# Altium footprint library Package_DIP.PcbLib: 281 footprints (part 7 of 18)
Each footprint in its own frame and in the unit in brackets; x right, y up, seen from the top. Pads: shape width x height; smd on the part's side, far side on the other; paste and mask are expansions set on the pad; w line width, h text height; cw(c..) or ccw(c..) is an arc to the next point about the centre after c.
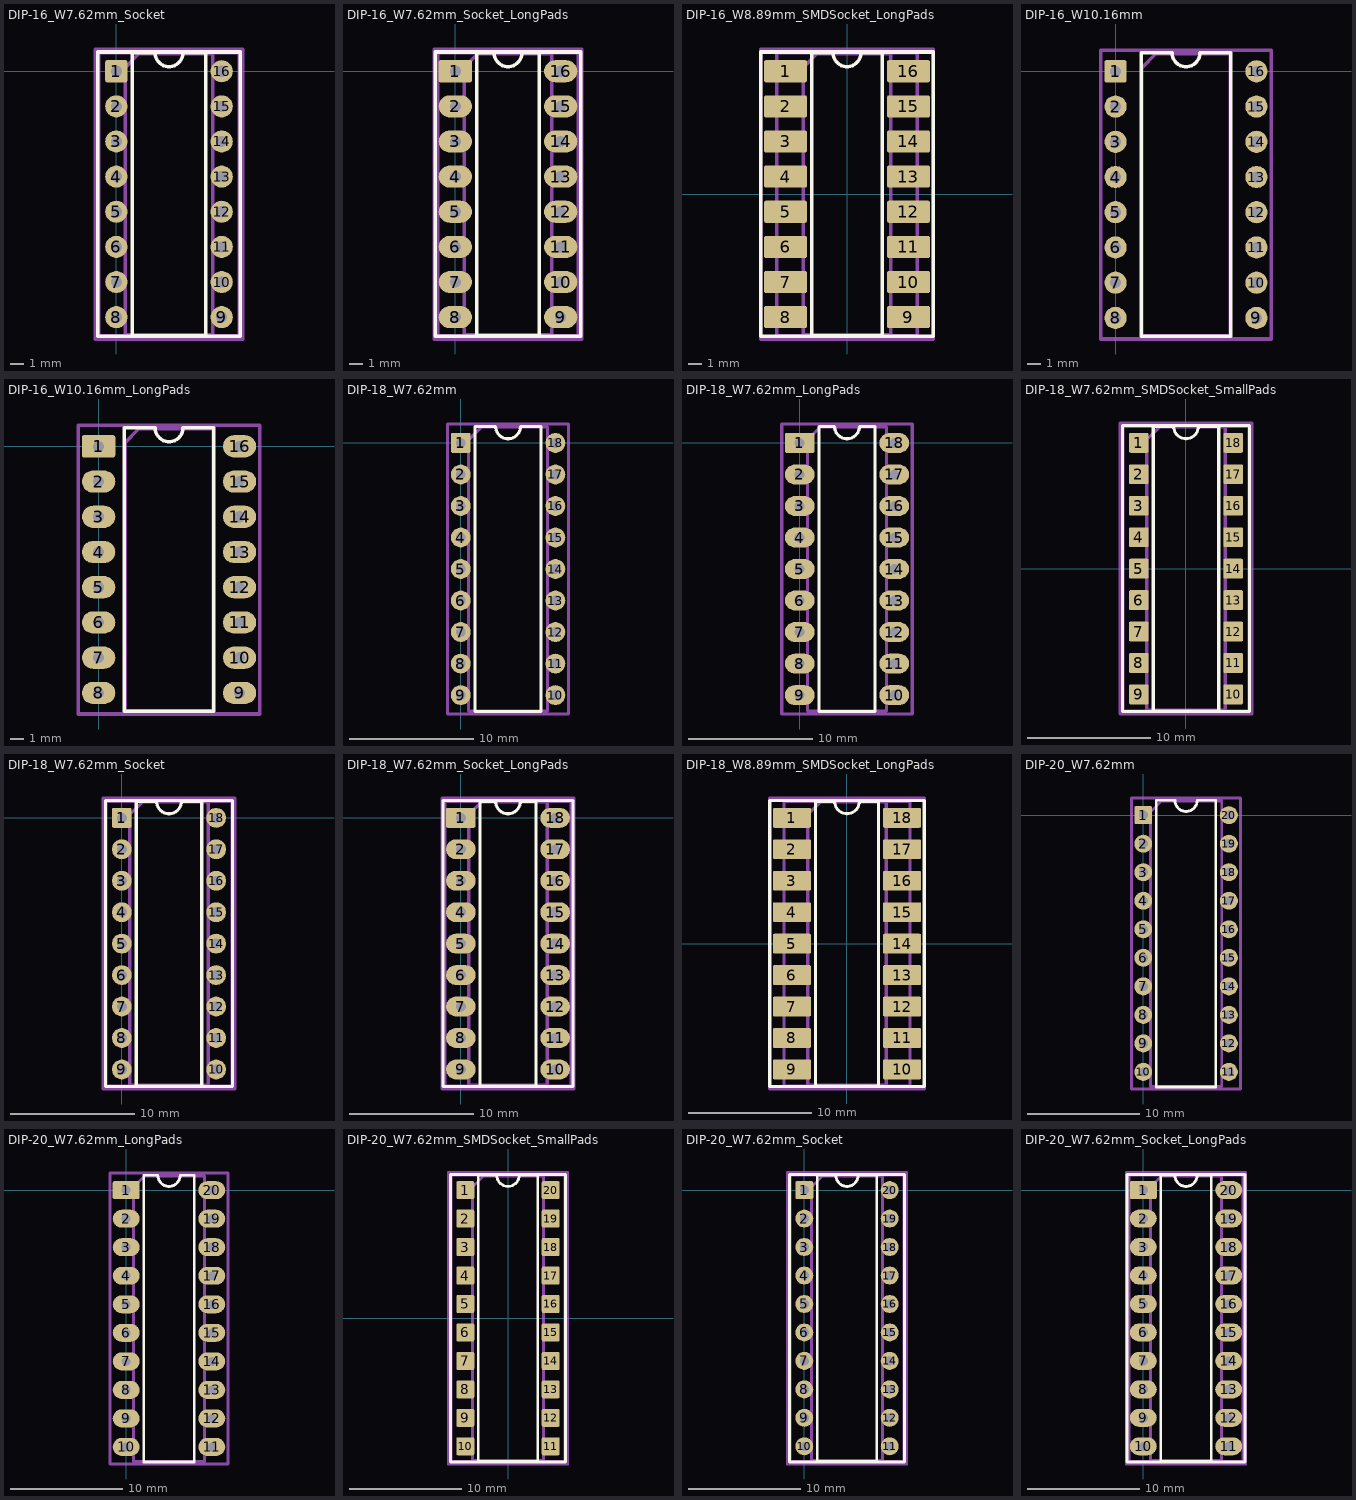
[diagram p6: the footprints below, top view; thin cyan lines are the x and y axes]

## DIP-16_W7.62mm_Socket [mm]
pads (16):
  rrect16% 1.6x1.6 hole 0.8: 1(0,0)
  round 1.6 hole 0.8: 2(0,-2.54) 3(0,-5.08) 4(0,-7.62) 5(0,-10.16) 6(0,-12.7) 7(0,-15.24) 8(0,-17.78) 9(7.62,-17.78) 10(7.62,-15.24) 11(7.62,-12.7) 12(7.62,-10.16) 13(7.62,-7.62) 14(7.62,-5.08) 15(7.62,-2.54) 16(7.62,0)
F.SilkS:
  lines w0.254: -1.33,-19.17 8.95,-19.17 8.95,1.39 -1.33,1.39 -1.33,-19.17 ; 1.16,-19.11 6.46,-19.11 6.46,1.33 4.81,1.33 cw(c3.81,1.33) 2.81,1.33 1.16,1.33 1.16,-19.11
Top Assembly:
  lines w0.254: -1.27,-19.11 8.89,-19.11 8.89,1.33 -1.27,1.33 -1.27,-19.11 ; 0.635,-19.05 6.985,-19.05 6.985,1.27 1.635,1.27 0.635,0.27 0.635,-19.05
  text "'.Designator'" at 4.65,-12.937 h1
Top Courtyard:
  lines w0.254: -1.52,-19.36 9.14,-19.36 9.14,1.58 -1.52,1.58 -1.52,-19.36
Top Designator:
  text ".Designator" at -3.808,-9.398 h1.52

## DIP-16_W7.62mm_Socket_LongPads [mm]
pads (16):
  rrect16% 2.4x1.6 hole 0.8: 1(0,0)
  rrect100% 2.4x1.6 hole 0.8: 2(0,-2.54) 3(0,-5.08) 4(0,-7.62) 5(0,-10.16) 6(0,-12.7) 7(0,-15.24) 8(0,-17.78) 9(7.62,-17.78) 10(7.62,-15.24) 11(7.62,-12.7) 12(7.62,-10.16) 13(7.62,-7.62) 14(7.62,-5.08) 15(7.62,-2.54) 16(7.62,0)
F.SilkS:
  lines w0.254: -1.44,-19.17 9.06,-19.17 9.06,1.39 -1.44,1.39 -1.44,-19.17 ; 1.56,-19.11 6.06,-19.11 6.06,1.33 4.81,1.33 cw(c3.81,1.33) 2.81,1.33 1.56,1.33 1.56,-19.11
Top Assembly:
  lines w0.254: -1.27,-19.11 8.89,-19.11 8.89,1.33 -1.27,1.33 -1.27,-19.11 ; 0.635,-19.05 6.985,-19.05 6.985,1.27 1.635,1.27 0.635,0.27 0.635,-19.05
  text "'.Designator'" at 4.65,-12.937 h1
Top Courtyard:
  lines w0.254: -1.52,-19.36 9.14,-19.36 9.14,1.58 -1.52,1.58 -1.52,-19.36
Top Designator:
  text ".Designator" at -3.808,-9.398 h1.52

## DIP-16_W8.89mm_SMDSocket_LongPads [mm]
pads (16):
  rrect16% 3.1x1.6 smd: 1(-4.445,8.89) 2(-4.445,6.35) 3(-4.445,3.81) 4(-4.445,1.27) 5(-4.445,-1.27) 6(-4.445,-3.81) 7(-4.445,-6.35) 8(-4.445,-8.89) 9(4.445,-8.89) 10(4.445,-6.35) 11(4.445,-3.81) 12(4.445,-1.27) 13(4.445,1.27) 14(4.445,3.81) 15(4.445,6.35) 16(4.445,8.89)
F.SilkS:
  lines w0.254: -6.235,-10.28 6.235,-10.28 6.235,10.28 -6.235,10.28 -6.235,-10.28 ; -2.535,-10.22 2.535,-10.22 2.535,10.22 1,10.22 cw(c0,10.22) -1,10.22 -2.535,10.22 -2.535,-10.22
Top Assembly:
  lines w0.254: -5.08,-10.22 5.08,-10.22 5.08,10.22 -5.08,10.22 -5.08,-10.22 ; -3.175,-10.16 3.175,-10.16 3.175,10.16 -2.175,10.16 -3.175,9.16 -3.175,-10.16
  text "'.Designator'" at 0.84,-4.047 h1
Top Courtyard:
  lines w0.254: -6.25,-10.47 6.25,-10.47 6.25,10.47 -6.25,10.47 -6.25,-10.47
Top Designator:
  text ".Designator" at -7.618,-0.508 h1.52

## DIP-16_W10.16mm [mm]
pads (16):
  rrect16% 1.6x1.6 hole 0.8: 1(0,0)
  round 1.6 hole 0.8: 2(0,-2.54) 3(0,-5.08) 4(0,-7.62) 5(0,-10.16) 6(0,-12.7) 7(0,-15.24) 8(0,-17.78) 9(10.16,-17.78) 10(10.16,-15.24) 11(10.16,-12.7) 12(10.16,-10.16) 13(10.16,-7.62) 14(10.16,-5.08) 15(10.16,-2.54) 16(10.16,0)
F.SilkS:
  lines w0.254: 1.845,-19.11 8.315,-19.11 8.315,1.33 6.08,1.33 cw(c5.08,1.33) 4.08,1.33 1.845,1.33 1.845,-19.11
Top Assembly:
  lines w0.254: 1.905,-19.05 8.255,-19.05 8.255,1.27 2.905,1.27 1.905,0.27 1.905,-19.05
  text "'.Designator'" at 5.92,-12.937 h1
Top Courtyard:
  lines w0.254: -1.05,-19.3 11.21,-19.3 11.21,1.52 -1.05,1.52 -1.05,-19.3
Top Designator:
  text ".Designator" at -2.538,-9.398 h1.52

## DIP-16_W10.16mm_LongPads [mm]
pads (16):
  rrect16% 2.4x1.6 hole 0.8: 1(0,0)
  rrect100% 2.4x1.6 hole 0.8: 2(0,-2.54) 3(0,-5.08) 4(0,-7.62) 5(0,-10.16) 6(0,-12.7) 7(0,-15.24) 8(0,-17.78) 9(10.16,-17.78) 10(10.16,-15.24) 11(10.16,-12.7) 12(10.16,-10.16) 13(10.16,-7.62) 14(10.16,-5.08) 15(10.16,-2.54) 16(10.16,0)
F.SilkS:
  lines w0.254: 1.845,-19.11 8.315,-19.11 8.315,1.33 6.08,1.33 cw(c5.08,1.33) 4.08,1.33 1.845,1.33 1.845,-19.11
Top Assembly:
  lines w0.254: 1.905,-19.05 8.255,-19.05 8.255,1.27 2.905,1.27 1.905,0.27 1.905,-19.05
  text "'.Designator'" at 5.92,-12.937 h1
Top Courtyard:
  lines w0.254: -1.46,-19.3 11.61,-19.3 11.61,1.52 -1.46,1.52 -1.46,-19.3
Top Designator:
  text ".Designator" at -2.543,-9.398 h1.52

## DIP-18_W7.62mm [mm]
pads (18):
  rrect16% 1.6x1.6 hole 0.8: 1(0,0)
  round 1.6 hole 0.8: 2(0,-2.54) 3(0,-5.08) 4(0,-7.62) 5(0,-10.16) 6(0,-12.7) 7(0,-15.24) 8(0,-17.78) 9(0,-20.32) 10(7.62,-20.32) 11(7.62,-17.78) 12(7.62,-15.24) 13(7.62,-12.7) 14(7.62,-10.16) 15(7.62,-7.62) 16(7.62,-5.08) 17(7.62,-2.54) 18(7.62,0)
F.SilkS:
  lines w0.254: 1.16,-21.65 6.46,-21.65 6.46,1.33 4.81,1.33 cw(c3.81,1.33) 2.81,1.33 1.16,1.33 1.16,-21.65
Top Assembly:
  lines w0.254: 0.635,-21.59 6.985,-21.59 6.985,1.27 1.635,1.27 0.635,0.27 0.635,-21.59
  text "'.Designator'" at 4.65,-14.207 h1
Top Courtyard:
  lines w0.254: -1.06,-21.84 8.67,-21.84 8.67,1.52 -1.06,1.52 -1.06,-21.84
Top Designator:
  text ".Designator" at -3.813,-10.668 h1.52

## DIP-18_W7.62mm_LongPads [mm]
pads (18):
  rrect16% 2.4x1.6 hole 0.8: 1(0,0)
  rrect100% 2.4x1.6 hole 0.8: 2(0,-2.54) 3(0,-5.08) 4(0,-7.62) 5(0,-10.16) 6(0,-12.7) 7(0,-15.24) 8(0,-17.78) 9(0,-20.32) 10(7.62,-20.32) 11(7.62,-17.78) 12(7.62,-15.24) 13(7.62,-12.7) 14(7.62,-10.16) 15(7.62,-7.62) 16(7.62,-5.08) 17(7.62,-2.54) 18(7.62,0)
F.SilkS:
  lines w0.254: 1.56,-21.65 6.06,-21.65 6.06,1.33 4.81,1.33 cw(c3.81,1.33) 2.81,1.33 1.56,1.33 1.56,-21.65
Top Assembly:
  lines w0.254: 0.635,-21.59 6.985,-21.59 6.985,1.27 1.635,1.27 0.635,0.27 0.635,-21.59
  text "'.Designator'" at 4.65,-14.207 h1
Top Courtyard:
  lines w0.254: -1.45,-21.84 9.07,-21.84 9.07,1.52 -1.45,1.52 -1.45,-21.84
Top Designator:
  text ".Designator" at -3.808,-10.668 h1.52

## DIP-18_W7.62mm_SMDSocket_SmallPads [mm]
pads (18):
  rrect16% 1.6x1.6 smd: 1(-3.81,10.16) 2(-3.81,7.62) 3(-3.81,5.08) 4(-3.81,2.54) 5(-3.81,0) 6(-3.81,-2.54) 7(-3.81,-5.08) 8(-3.81,-7.62) 9(-3.81,-10.16) 10(3.81,-10.16) 11(3.81,-7.62) 12(3.81,-5.08) 13(3.81,-2.54) 14(3.81,0) 15(3.81,2.54) 16(3.81,5.08) 17(3.81,7.62) 18(3.81,10.16)
F.SilkS:
  lines w0.254: -5.14,-11.55 5.14,-11.55 5.14,11.55 -5.14,11.55 -5.14,-11.55 ; -2.65,-11.49 2.65,-11.49 2.65,11.49 1,11.49 cw(c0,11.49) -1,11.49 -2.65,11.49 -2.65,-11.49
Top Assembly:
  lines w0.254: -5.08,-11.49 5.08,-11.49 5.08,11.49 -5.08,11.49 -5.08,-11.49 ; -3.175,-11.43 3.175,-11.43 3.175,11.43 -2.175,11.43 -3.175,10.43 -3.175,-11.43
  text "'.Designator'" at 0.84,-4.047 h1
Top Courtyard:
  lines w0.254: -5.33,-11.74 5.33,-11.74 5.33,11.74 -5.33,11.74 -5.33,-11.74
Top Designator:
  text ".Designator" at -7.618,-0.508 h1.52

## DIP-18_W7.62mm_Socket [mm]
pads (18):
  rrect16% 1.6x1.6 hole 0.8: 1(0,0)
  round 1.6 hole 0.8: 2(0,-2.54) 3(0,-5.08) 4(0,-7.62) 5(0,-10.16) 6(0,-12.7) 7(0,-15.24) 8(0,-17.78) 9(0,-20.32) 10(7.62,-20.32) 11(7.62,-17.78) 12(7.62,-15.24) 13(7.62,-12.7) 14(7.62,-10.16) 15(7.62,-7.62) 16(7.62,-5.08) 17(7.62,-2.54) 18(7.62,0)
F.SilkS:
  lines w0.254: -1.33,-21.71 8.95,-21.71 8.95,1.39 -1.33,1.39 -1.33,-21.71 ; 1.16,-21.65 6.46,-21.65 6.46,1.33 4.81,1.33 cw(c3.81,1.33) 2.81,1.33 1.16,1.33 1.16,-21.65
Top Assembly:
  lines w0.254: -1.27,-21.65 8.89,-21.65 8.89,1.33 -1.27,1.33 -1.27,-21.65 ; 0.635,-21.59 6.985,-21.59 6.985,1.27 1.635,1.27 0.635,0.27 0.635,-21.59
  text "'.Designator'" at 4.65,-14.207 h1
Top Courtyard:
  lines w0.254: -1.52,-21.9 9.14,-21.9 9.14,1.58 -1.52,1.58 -1.52,-21.9
Top Designator:
  text ".Designator" at -3.808,-10.668 h1.52

## DIP-18_W7.62mm_Socket_LongPads [mm]
pads (18):
  rrect16% 2.4x1.6 hole 0.8: 1(0,0)
  rrect100% 2.4x1.6 hole 0.8: 2(0,-2.54) 3(0,-5.08) 4(0,-7.62) 5(0,-10.16) 6(0,-12.7) 7(0,-15.24) 8(0,-17.78) 9(0,-20.32) 10(7.62,-20.32) 11(7.62,-17.78) 12(7.62,-15.24) 13(7.62,-12.7) 14(7.62,-10.16) 15(7.62,-7.62) 16(7.62,-5.08) 17(7.62,-2.54) 18(7.62,0)
F.SilkS:
  lines w0.254: -1.44,-21.71 9.06,-21.71 9.06,1.39 -1.44,1.39 -1.44,-21.71 ; 1.56,-21.65 6.06,-21.65 6.06,1.33 4.81,1.33 cw(c3.81,1.33) 2.81,1.33 1.56,1.33 1.56,-21.65
Top Assembly:
  lines w0.254: -1.27,-21.65 8.89,-21.65 8.89,1.33 -1.27,1.33 -1.27,-21.65 ; 0.635,-21.59 6.985,-21.59 6.985,1.27 1.635,1.27 0.635,0.27 0.635,-21.59
  text "'.Designator'" at 4.65,-14.207 h1
Top Courtyard:
  lines w0.254: -1.52,-21.9 9.14,-21.9 9.14,1.58 -1.52,1.58 -1.52,-21.9
Top Designator:
  text ".Designator" at -3.808,-10.668 h1.52

## DIP-18_W8.89mm_SMDSocket_LongPads [mm]
pads (18):
  rrect16% 3.1x1.6 smd: 1(-4.445,10.16) 2(-4.445,7.62) 3(-4.445,5.08) 4(-4.445,2.54) 5(-4.445,0) 6(-4.445,-2.54) 7(-4.445,-5.08) 8(-4.445,-7.62) 9(-4.445,-10.16) 10(4.445,-10.16) 11(4.445,-7.62) 12(4.445,-5.08) 13(4.445,-2.54) 14(4.445,0) 15(4.445,2.54) 16(4.445,5.08) 17(4.445,7.62) 18(4.445,10.16)
F.SilkS:
  lines w0.254: -6.235,-11.55 6.235,-11.55 6.235,11.55 -6.235,11.55 -6.235,-11.55 ; -2.535,-11.49 2.535,-11.49 2.535,11.49 1,11.49 cw(c0,11.49) -1,11.49 -2.535,11.49 -2.535,-11.49
Top Assembly:
  lines w0.254: -5.08,-11.49 5.08,-11.49 5.08,11.49 -5.08,11.49 -5.08,-11.49 ; -3.175,-11.43 3.175,-11.43 3.175,11.43 -2.175,11.43 -3.175,10.43 -3.175,-11.43
  text "'.Designator'" at 0.84,-4.047 h1
Top Courtyard:
  lines w0.254: -6.25,-11.74 6.25,-11.74 6.25,11.74 -6.25,11.74 -6.25,-11.74
Top Designator:
  text ".Designator" at -7.618,-0.508 h1.52

## DIP-20_W7.62mm [mm]
pads (20):
  rrect16% 1.6x1.6 hole 0.8: 1(0,0)
  round 1.6 hole 0.8: 2(0,-2.54) 3(0,-5.08) 4(0,-7.62) 5(0,-10.16) 6(0,-12.7) 7(0,-15.24) 8(0,-17.78) 9(0,-20.32) 10(0,-22.86) 11(7.62,-22.86) 12(7.62,-20.32) 13(7.62,-17.78) 14(7.62,-15.24) 15(7.62,-12.7) 16(7.62,-10.16) 17(7.62,-7.62) 18(7.62,-5.08) 19(7.62,-2.54) 20(7.62,0)
F.SilkS:
  lines w0.254: 1.16,-24.19 6.46,-24.19 6.46,1.33 4.81,1.33 cw(c3.81,1.33) 2.81,1.33 1.16,1.33 1.16,-24.19
Top Assembly:
  lines w0.254: 0.635,-24.13 6.985,-24.13 6.985,1.27 1.635,1.27 0.635,0.27 0.635,-24.13
  text "'.Designator'" at 4.65,-15.477 h1
Top Courtyard:
  lines w0.254: -1.06,-24.38 8.67,-24.38 8.67,1.52 -1.06,1.52 -1.06,-24.38
Top Designator:
  text ".Designator" at -3.813,-11.938 h1.52

## DIP-20_W7.62mm_LongPads [mm]
pads (20):
  rrect16% 2.4x1.6 hole 0.8: 1(0,0)
  rrect100% 2.4x1.6 hole 0.8: 2(0,-2.54) 3(0,-5.08) 4(0,-7.62) 5(0,-10.16) 6(0,-12.7) 7(0,-15.24) 8(0,-17.78) 9(0,-20.32) 10(0,-22.86) 11(7.62,-22.86) 12(7.62,-20.32) 13(7.62,-17.78) 14(7.62,-15.24) 15(7.62,-12.7) 16(7.62,-10.16) 17(7.62,-7.62) 18(7.62,-5.08) 19(7.62,-2.54) 20(7.62,0)
F.SilkS:
  lines w0.254: 1.56,-24.19 6.06,-24.19 6.06,1.33 4.81,1.33 cw(c3.81,1.33) 2.81,1.33 1.56,1.33 1.56,-24.19
Top Assembly:
  lines w0.254: 0.635,-24.13 6.985,-24.13 6.985,1.27 1.635,1.27 0.635,0.27 0.635,-24.13
  text "'.Designator'" at 4.65,-15.477 h1
Top Courtyard:
  lines w0.254: -1.45,-24.38 9.07,-24.38 9.07,1.52 -1.45,1.52 -1.45,-24.38
Top Designator:
  text ".Designator" at -3.808,-11.938 h1.52

## DIP-20_W7.62mm_SMDSocket_SmallPads [mm]
pads (20):
  rrect16% 1.6x1.6 smd: 1(-3.81,11.43) 2(-3.81,8.89) 3(-3.81,6.35) 4(-3.81,3.81) 5(-3.81,1.27) 6(-3.81,-1.27) 7(-3.81,-3.81) 8(-3.81,-6.35) 9(-3.81,-8.89) 10(-3.81,-11.43) 11(3.81,-11.43) 12(3.81,-8.89) 13(3.81,-6.35) 14(3.81,-3.81) 15(3.81,-1.27) 16(3.81,1.27) 17(3.81,3.81) 18(3.81,6.35) 19(3.81,8.89) 20(3.81,11.43)
F.SilkS:
  lines w0.254: -5.14,-12.82 5.14,-12.82 5.14,12.82 -5.14,12.82 -5.14,-12.82 ; -2.65,-12.76 2.65,-12.76 2.65,12.76 1,12.76 cw(c0,12.76) -1,12.76 -2.65,12.76 -2.65,-12.76
Top Assembly:
  lines w0.254: -5.08,-12.76 5.08,-12.76 5.08,12.76 -5.08,12.76 -5.08,-12.76 ; -3.175,-12.7 3.175,-12.7 3.175,12.7 -2.175,12.7 -3.175,11.7 -3.175,-12.7
  text "'.Designator'" at 0.84,-4.047 h1
Top Courtyard:
  lines w0.254: -5.33,-13.01 5.33,-13.01 5.33,13.01 -5.33,13.01 -5.33,-13.01
Top Designator:
  text ".Designator" at -7.618,-0.508 h1.52

## DIP-20_W7.62mm_Socket [mm]
pads (20):
  rrect16% 1.6x1.6 hole 0.8: 1(0,0)
  round 1.6 hole 0.8: 2(0,-2.54) 3(0,-5.08) 4(0,-7.62) 5(0,-10.16) 6(0,-12.7) 7(0,-15.24) 8(0,-17.78) 9(0,-20.32) 10(0,-22.86) 11(7.62,-22.86) 12(7.62,-20.32) 13(7.62,-17.78) 14(7.62,-15.24) 15(7.62,-12.7) 16(7.62,-10.16) 17(7.62,-7.62) 18(7.62,-5.08) 19(7.62,-2.54) 20(7.62,0)
F.SilkS:
  lines w0.254: -1.33,-24.25 8.95,-24.25 8.95,1.39 -1.33,1.39 -1.33,-24.25 ; 1.16,-24.19 6.46,-24.19 6.46,1.33 4.81,1.33 cw(c3.81,1.33) 2.81,1.33 1.16,1.33 1.16,-24.19
Top Assembly:
  lines w0.254: -1.27,-24.19 8.89,-24.19 8.89,1.33 -1.27,1.33 -1.27,-24.19 ; 0.635,-24.13 6.985,-24.13 6.985,1.27 1.635,1.27 0.635,0.27 0.635,-24.13
  text "'.Designator'" at 4.65,-15.477 h1
Top Courtyard:
  lines w0.254: -1.52,-24.44 9.14,-24.44 9.14,1.58 -1.52,1.58 -1.52,-24.44
Top Designator:
  text ".Designator" at -3.808,-11.938 h1.52

## DIP-20_W7.62mm_Socket_LongPads [mm]
pads (20):
  rrect16% 2.4x1.6 hole 0.8: 1(0,0)
  rrect100% 2.4x1.6 hole 0.8: 2(0,-2.54) 3(0,-5.08) 4(0,-7.62) 5(0,-10.16) 6(0,-12.7) 7(0,-15.24) 8(0,-17.78) 9(0,-20.32) 10(0,-22.86) 11(7.62,-22.86) 12(7.62,-20.32) 13(7.62,-17.78) 14(7.62,-15.24) 15(7.62,-12.7) 16(7.62,-10.16) 17(7.62,-7.62) 18(7.62,-5.08) 19(7.62,-2.54) 20(7.62,0)
F.SilkS:
  lines w0.254: -1.44,-24.25 9.06,-24.25 9.06,1.39 -1.44,1.39 -1.44,-24.25 ; 1.56,-24.19 6.06,-24.19 6.06,1.33 4.81,1.33 cw(c3.81,1.33) 2.81,1.33 1.56,1.33 1.56,-24.19
Top Assembly:
  lines w0.254: -1.27,-24.19 8.89,-24.19 8.89,1.33 -1.27,1.33 -1.27,-24.19 ; 0.635,-24.13 6.985,-24.13 6.985,1.27 1.635,1.27 0.635,0.27 0.635,-24.13
  text "'.Designator'" at 4.65,-15.477 h1
Top Courtyard:
  lines w0.254: -1.52,-24.44 9.14,-24.44 9.14,1.58 -1.52,1.58 -1.52,-24.44
Top Designator:
  text ".Designator" at -3.808,-11.938 h1.52